# EAGLE library part HIROSE_DF17_70 (library greghale_eib_preamp)
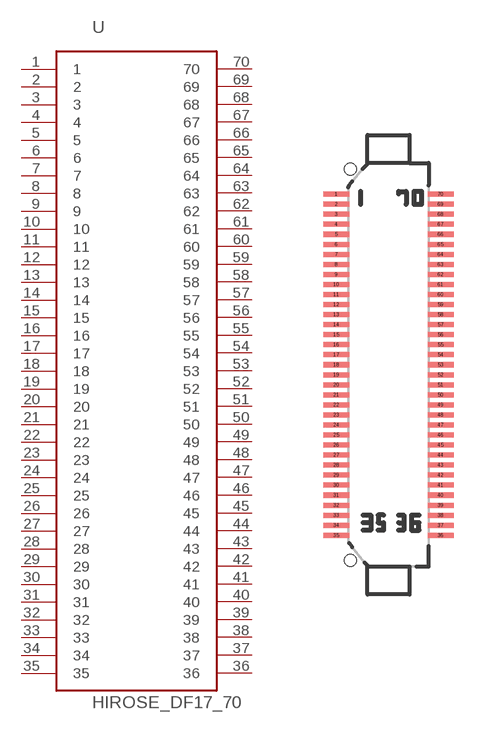
[diagram p11: symbol with the pads of HIROSE_DF17_70_TOPVIEW; footprint HIROSE_DF17_70_TOPVIEW]

Designator prefix -

## HIROSE_DF17_70  [HIROSE_DF17_70_TOPVIEW]
1  1
2  2  nc
3  3
4  4
5  5
6  6
7  7
8  8
9  9
10  10
11  11
12  12
13  13
14  14
15  15
16  16
17  17
18  18
19  19
20  20
21  21
22  22
23  23
24  24
25  25
26  26
27  27
28  28
29  29
30  30
31  31
32  32
33  33
34  34
35  35  nc
36  36  nc
37  37
38  38
39  39
40  40
41  41
42  42
43  43
44  44
45  45
46  46
47  47
48  48
49  49
50  50
51  51
52  52
53  53
54  54
55  55
56  56
57  57
58  58
59  59
60  60
61  61
62  62
63  63
64  64
65  65
66  66
67  67
68  68
69  69
70  70

## Footprint HIROSE_DF17_70_TOPVIEW (pad centres in mm)
smd 1.3 x 0.25: 1 -2.6,8.5; 2 -2.6,8; 3 -2.6,7.5; 4 -2.6,7; 5 -2.6,6.5; 6 -2.6,6; 7 -2.6,5.5; 8 -2.6,5; 9 -2.6,4.5; 10 -2.6,4; 11 -2.6,3.5; 12 -2.6,3; 13 -2.6,2.5; 14 -2.6,2; 15 -2.6,1.5; 16 -2.6,1; 17 -2.6,0.5; 18 -2.6,0; 19 -2.6,-0.5; 20 -2.6,-1; 21 -2.6,-1.5; 22 -2.6,-2; 23 -2.6,-2.5; 24 -2.6,-3; 25 -2.6,-3.5; 26 -2.6,-4; 27 -2.6,-4.5; 28 -2.6,-5; 29 -2.6,-5.5; 30 -2.6,-6; 31 -2.6,-6.5; 32 -2.6,-7; 33 -2.6,-7.5; 34 -2.6,-8; 35 -2.6,-8.5; 36 2.6,-8.5; 37 2.6,-8; 38 2.6,-7.5; 39 2.6,-7; 40 2.6,-6.5; 41 2.6,-6; 42 2.6,-5.5; 43 2.6,-5; 44 2.6,-4.5; 45 2.6,-4; 46 2.6,-3.5; 47 2.6,-3; 48 2.6,-2.5; 49 2.6,-2; 50 2.6,-1.5; 51 2.6,-1; 52 2.6,-0.5; 53 2.6,0; 54 2.6,0.5; 55 2.6,1; 56 2.6,1.5; 57 2.6,2; 58 2.6,2.5; 59 2.6,3; 60 2.6,3.5; 61 2.6,4; 62 2.6,4.5; 63 2.6,5; 64 2.6,5.5; 65 2.6,6; 66 2.6,6.5; 67 2.6,7; 68 2.6,7.5; 69 2.6,8; 70 2.6,8.5
hole 0.6 at -1.9,9.75
hole 0.6 at -1.9,-9.75